# Altium footprint library IPC-SM-782 Section 14.1.2 PBGA 1.27mm.PcbLib: 49 footprints (part 6 of 11)
Each footprint in its own frame and in the unit in brackets; x right, y up, seen from the top. Pads: shape width x height; smd on the part's side, far side on the other; paste and mask are expansions set on the pad; w line width, h text height; cw(c..) or ccw(c..) is an arc to the next point about the centre after c.
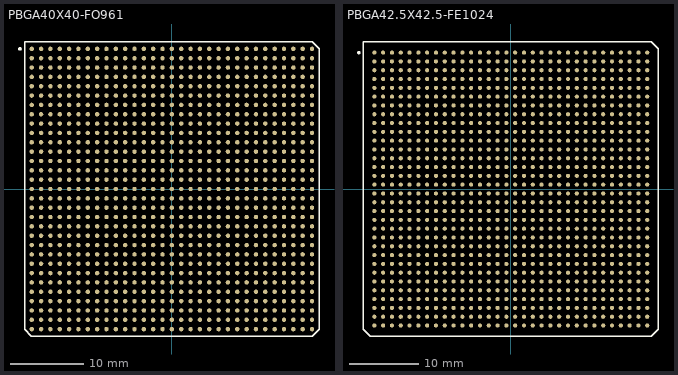
[diagram p5: the footprints below, top view; thin cyan lines are the x and y axes]

## PBGA40X40-FO961 [mm] "BGA; 961 Balls; Body 40 x 40 mm; Pitch 1.27 mm"
height 3.5
pads (961):
  round 0.6 smd: A1(-19.05,19.05) A2(-17.78,19.05) A3(-16.51,19.05) A4(-15.24,19.05) A5(-13.97,19.05) A6(-12.7,19.05) A7(-11.43,19.05) A8(-10.16,19.05) A9(-8.89,19.05) A10(-7.62,19.05) A11(-6.35,19.05) A12(-5.08,19.05) A13(-3.81,19.05) A14(-2.54,19.05) A15(-1.27,19.05) A16(0,19.05) A17(1.27,19.05) A18(2.54,19.05) A19(3.81,19.05) A20(5.08,19.05) A21(6.35,19.05) A22(7.62,19.05) A23(8.89,19.05) A24(10.16,19.05) A25(11.43,19.05) A26(12.7,19.05) A27(13.97,19.05) A28(15.24,19.05) A29(16.51,19.05) A30(17.78,19.05) A31(19.05,19.05) AA1(-19.05,-6.35) AA2(-17.78,-6.35) AA3(-16.51,-6.35) AA4(-15.24,-6.35) AA5(-13.97,-6.35) AA6(-12.7,-6.35) AA7(-11.43,-6.35) AA8(-10.16,-6.35) AA9(-8.89,-6.35) AA10(-7.62,-6.35) AA11(-6.35,-6.35) AA12(-5.08,-6.35) AA13(-3.81,-6.35) AA14(-2.54,-6.35) AA15(-1.27,-6.35) AA16(0,-6.35) AA17(1.27,-6.35) AA18(2.54,-6.35) AA19(3.81,-6.35) AA20(5.08,-6.35) AA21(6.35,-6.35) AA22(7.62,-6.35) AA23(8.89,-6.35) AA24(10.16,-6.35) AA25(11.43,-6.35) AA26(12.7,-6.35) AA27(13.97,-6.35) AA28(15.24,-6.35) AA29(16.51,-6.35) AA30(17.78,-6.35) AA31(19.05,-6.35) AB1(-19.05,-7.62) AB2(-17.78,-7.62) AB3(-16.51,-7.62) AB4(-15.24,-7.62) AB5(-13.97,-7.62) AB6(-12.7,-7.62) AB7(-11.43,-7.62) AB8(-10.16,-7.62) AB9(-8.89,-7.62) AB10(-7.62,-7.62) AB11(-6.35,-7.62) AB12(-5.08,-7.62) AB13(-3.81,-7.62) AB14(-2.54,-7.62) AB15(-1.27,-7.62) AB16(0,-7.62) AB17(1.27,-7.62) AB18(2.54,-7.62) AB19(3.81,-7.62) AB20(5.08,-7.62) AB21(6.35,-7.62) AB22(7.62,-7.62) AB23(8.89,-7.62) AB24(10.16,-7.62) AB25(11.43,-7.62) AB26(12.7,-7.62) AB27(13.97,-7.62) AB28(15.24,-7.62) AB29(16.51,-7.62) AB30(17.78,-7.62) AB31(19.05,-7.62) AC1(-19.05,-8.89) AC2(-17.78,-8.89) AC3(-16.51,-8.89) AC4(-15.24,-8.89) AC5(-13.97,-8.89) AC6(-12.7,-8.89) AC7(-11.43,-8.89) AC8(-10.16,-8.89) AC9(-8.89,-8.89) AC10(-7.62,-8.89) AC11(-6.35,-8.89) AC12(-5.08,-8.89) AC13(-3.81,-8.89) AC14(-2.54,-8.89) AC15(-1.27,-8.89) AC16(0,-8.89) AC17(1.27,-8.89) AC18(2.54,-8.89) AC19(3.81,-8.89) AC20(5.08,-8.89) AC21(6.35,-8.89) AC22(7.62,-8.89) AC23(8.89,-8.89) AC24(10.16,-8.89) AC25(11.43,-8.89) AC26(12.7,-8.89) AC27(13.97,-8.89) AC28(15.24,-8.89) AC29(16.51,-8.89) AC30(17.78,-8.89) AC31(19.05,-8.89) AD1(-19.05,-10.16) AD2(-17.78,-10.16) AD3(-16.51,-10.16) AD4(-15.24,-10.16) AD5(-13.97,-10.16) AD6(-12.7,-10.16) AD7(-11.43,-10.16) AD8(-10.16,-10.16) AD9(-8.89,-10.16) AD10(-7.62,-10.16) AD11(-6.35,-10.16) AD12(-5.08,-10.16) AD13(-3.81,-10.16) AD14(-2.54,-10.16) AD15(-1.27,-10.16) AD16(0,-10.16) AD17(1.27,-10.16) AD18(2.54,-10.16) AD19(3.81,-10.16) AD20(5.08,-10.16) AD21(6.35,-10.16) AD22(7.62,-10.16) AD23(8.89,-10.16) AD24(10.16,-10.16) AD25(11.43,-10.16) AD26(12.7,-10.16) AD27(13.97,-10.16) AD28(15.24,-10.16) AD29(16.51,-10.16) AD30(17.78,-10.16) AD31(19.05,-10.16) AE1(-19.05,-11.43) AE2(-17.78,-11.43) AE3(-16.51,-11.43) AE4(-15.24,-11.43) AE5(-13.97,-11.43) AE6(-12.7,-11.43) AE7(-11.43,-11.43) AE8(-10.16,-11.43) AE9(-8.89,-11.43) AE10(-7.62,-11.43) AE11(-6.35,-11.43) AE12(-5.08,-11.43) AE13(-3.81,-11.43) AE14(-2.54,-11.43) AE15(-1.27,-11.43) AE16(0,-11.43) AE17(1.27,-11.43) AE18(2.54,-11.43) AE19(3.81,-11.43) AE20(5.08,-11.43) AE21(6.35,-11.43) AE22(7.62,-11.43) AE23(8.89,-11.43) AE24(10.16,-11.43) AE25(11.43,-11.43) AE26(12.7,-11.43) AE27(13.97,-11.43) AE28(15.24,-11.43) AE29(16.51,-11.43) AE30(17.78,-11.43) AE31(19.05,-11.43) AF1(-19.05,-12.7) AF2(-17.78,-12.7) AF3(-16.51,-12.7) AF4(-15.24,-12.7) AF5(-13.97,-12.7) AF6(-12.7,-12.7) AF7(-11.43,-12.7) AF8(-10.16,-12.7) AF9(-8.89,-12.7) AF10(-7.62,-12.7) AF11(-6.35,-12.7) AF12(-5.08,-12.7) AF13(-3.81,-12.7) AF14(-2.54,-12.7) AF15(-1.27,-12.7) AF16(0,-12.7) AF17(1.27,-12.7) AF18(2.54,-12.7) AF19(3.81,-12.7) AF20(5.08,-12.7) AF21(6.35,-12.7) AF22(7.62,-12.7) AF23(8.89,-12.7) AF24(10.16,-12.7) AF25(11.43,-12.7) AF26(12.7,-12.7) AF27(13.97,-12.7) AF28(15.24,-12.7) AF29(16.51,-12.7) AF30(17.78,-12.7) AF31(19.05,-12.7) AG1(-19.05,-13.97) AG2(-17.78,-13.97) AG3(-16.51,-13.97) AG4(-15.24,-13.97) AG5(-13.97,-13.97) AG6(-12.7,-13.97) AG7(-11.43,-13.97) AG8(-10.16,-13.97) AG9(-8.89,-13.97) AG10(-7.62,-13.97) AG11(-6.35,-13.97) AG12(-5.08,-13.97) AG13(-3.81,-13.97) AG14(-2.54,-13.97) AG15(-1.27,-13.97) AG16(0,-13.97) AG17(1.27,-13.97) AG18(2.54,-13.97) AG19(3.81,-13.97) AG20(5.08,-13.97) AG21(6.35,-13.97) AG22(7.62,-13.97) AG23(8.89,-13.97) AG24(10.16,-13.97) AG25(11.43,-13.97) AG26(12.7,-13.97) AG27(13.97,-13.97) AG28(15.24,-13.97) AG29(16.51,-13.97) AG30(17.78,-13.97) AG31(19.05,-13.97) AH1(-19.05,-15.24) AH2(-17.78,-15.24) AH3(-16.51,-15.24) AH4(-15.24,-15.24) AH5(-13.97,-15.24) AH6(-12.7,-15.24) AH7(-11.43,-15.24) AH8(-10.16,-15.24) AH9(-8.89,-15.24) AH10(-7.62,-15.24) AH11(-6.35,-15.24) AH12(-5.08,-15.24) AH13(-3.81,-15.24) AH14(-2.54,-15.24) AH15(-1.27,-15.24) AH16(0,-15.24) AH17(1.27,-15.24) AH18(2.54,-15.24) AH19(3.81,-15.24) AH20(5.08,-15.24) AH21(6.35,-15.24) AH22(7.62,-15.24) AH23(8.89,-15.24) AH24(10.16,-15.24) AH25(11.43,-15.24) AH26(12.7,-15.24) AH27(13.97,-15.24) AH28(15.24,-15.24) AH29(16.51,-15.24) AH30(17.78,-15.24) AH31(19.05,-15.24) AJ1(-19.05,-16.51) AJ2(-17.78,-16.51) AJ3(-16.51,-16.51) AJ4(-15.24,-16.51) AJ5(-13.97,-16.51) AJ6(-12.7,-16.51) AJ7(-11.43,-16.51) AJ8(-10.16,-16.51) AJ9(-8.89,-16.51) AJ10(-7.62,-16.51) AJ11(-6.35,-16.51) AJ12(-5.08,-16.51) AJ13(-3.81,-16.51) AJ14(-2.54,-16.51) AJ15(-1.27,-16.51) AJ16(0,-16.51) AJ17(1.27,-16.51) AJ18(2.54,-16.51) AJ19(3.81,-16.51) AJ20(5.08,-16.51) AJ21(6.35,-16.51) AJ22(7.62,-16.51) AJ23(8.89,-16.51) AJ24(10.16,-16.51) AJ25(11.43,-16.51) AJ26(12.7,-16.51) AJ27(13.97,-16.51) AJ28(15.24,-16.51) AJ29(16.51,-16.51) AJ30(17.78,-16.51) AJ31(19.05,-16.51) AK1(-19.05,-17.78) AK2(-17.78,-17.78) AK3(-16.51,-17.78) AK4(-15.24,-17.78) AK5(-13.97,-17.78) AK6(-12.7,-17.78) AK7(-11.43,-17.78) AK8(-10.16,-17.78) AK9(-8.89,-17.78) AK10(-7.62,-17.78) AK11(-6.35,-17.78) AK12(-5.08,-17.78) AK13(-3.81,-17.78) AK14(-2.54,-17.78) AK15(-1.27,-17.78) AK16(0,-17.78) AK17(1.27,-17.78) AK18(2.54,-17.78) AK19(3.81,-17.78) AK20(5.08,-17.78) AK21(6.35,-17.78) AK22(7.62,-17.78) AK23(8.89,-17.78) AK24(10.16,-17.78) AK25(11.43,-17.78) AK26(12.7,-17.78) AK27(13.97,-17.78) AK28(15.24,-17.78) AK29(16.51,-17.78) AK30(17.78,-17.78) AK31(19.05,-17.78) AL1(-19.05,-19.05) AL2(-17.78,-19.05) AL3(-16.51,-19.05) AL4(-15.24,-19.05) AL5(-13.97,-19.05) AL6(-12.7,-19.05) AL7(-11.43,-19.05) AL8(-10.16,-19.05) AL9(-8.89,-19.05) AL10(-7.62,-19.05) AL11(-6.35,-19.05) AL12(-5.08,-19.05) AL13(-3.81,-19.05) AL14(-2.54,-19.05) AL15(-1.27,-19.05) AL16(0,-19.05) AL17(1.27,-19.05) AL18(2.54,-19.05) AL19(3.81,-19.05) AL20(5.08,-19.05) AL21(6.35,-19.05) AL22(7.62,-19.05) AL23(8.89,-19.05) AL24(10.16,-19.05) AL25(11.43,-19.05) AL26(12.7,-19.05) AL27(13.97,-19.05) AL28(15.24,-19.05) AL29(16.51,-19.05) AL30(17.78,-19.05) AL31(19.05,-19.05) B1(-19.05,17.78) B2(-17.78,17.78) B3(-16.51,17.78) B4(-15.24,17.78) B5(-13.97,17.78) B6(-12.7,17.78) B7(-11.43,17.78) B8(-10.16,17.78) B9(-8.89,17.78) B10(-7.62,17.78) B11(-6.35,17.78) B12(-5.08,17.78) B13(-3.81,17.78) B14(-2.54,17.78) B15(-1.27,17.78) B16(0,17.78) B17(1.27,17.78) B18(2.54,17.78) B19(3.81,17.78) B20(5.08,17.78) B21(6.35,17.78) B22(7.62,17.78) B23(8.89,17.78) B24(10.16,17.78) B25(11.43,17.78) B26(12.7,17.78) B27(13.97,17.78) B28(15.24,17.78) B29(16.51,17.78) B30(17.78,17.78) B31(19.05,17.78) C1(-19.05,16.51) C2(-17.78,16.51) C3(-16.51,16.51) C4(-15.24,16.51) C5(-13.97,16.51) C6(-12.7,16.51) C7(-11.43,16.51) C8(-10.16,16.51) C9(-8.89,16.51) C10(-7.62,16.51) C11(-6.35,16.51) C12(-5.08,16.51) C13(-3.81,16.51) C14(-2.54,16.51) C15(-1.27,16.51) C16(0,16.51) C17(1.27,16.51) C18(2.54,16.51) C19(3.81,16.51) C20(5.08,16.51) C21(6.35,16.51) C22(7.62,16.51) C23(8.89,16.51) C24(10.16,16.51) C25(11.43,16.51) C26(12.7,16.51) C27(13.97,16.51) C28(15.24,16.51) C29(16.51,16.51) C30(17.78,16.51) C31(19.05,16.51) D1(-19.05,15.24) D2(-17.78,15.24) D3(-16.51,15.24) D4(-15.24,15.24) D5(-13.97,15.24) D6(-12.7,15.24) D7(-11.43,15.24) D8(-10.16,15.24) D9(-8.89,15.24) D10(-7.62,15.24) D11(-6.35,15.24) D12(-5.08,15.24) D13(-3.81,15.24) D14(-2.54,15.24) D15(-1.27,15.24) D16(0,15.24) D17(1.27,15.24) D18(2.54,15.24) D19(3.81,15.24) D20(5.08,15.24) D21(6.35,15.24) D22(7.62,15.24) D23(8.89,15.24) D24(10.16,15.24) D25(11.43,15.24) D26(12.7,15.24) D27(13.97,15.24) D28(15.24,15.24) D29(16.51,15.24) D30(17.78,15.24) D31(19.05,15.24) E1(-19.05,13.97) E2(-17.78,13.97) E3(-16.51,13.97) E4(-15.24,13.97) E5(-13.97,13.97) E6(-12.7,13.97) E7(-11.43,13.97) E8(-10.16,13.97) E9(-8.89,13.97) E10(-7.62,13.97) E11(-6.35,13.97) E12(-5.08,13.97) E13(-3.81,13.97) E14(-2.54,13.97) E15(-1.27,13.97) E16(0,13.97) E17(1.27,13.97) E18(2.54,13.97) E19(3.81,13.97) E20(5.08,13.97) E21(6.35,13.97) E22(7.62,13.97) E23(8.89,13.97) E24(10.16,13.97) E25(11.43,13.97) E26(12.7,13.97) E27(13.97,13.97) E28(15.24,13.97) E29(16.51,13.97) E30(17.78,13.97) E31(19.05,13.97) F1(-19.05,12.7) F2(-17.78,12.7) F3(-16.51,12.7) F4(-15.24,12.7) F5(-13.97,12.7) F6(-12.7,12.7) F7(-11.43,12.7) F8(-10.16,12.7) F9(-8.89,12.7) F10(-7.62,12.7) F11(-6.35,12.7) F12(-5.08,12.7) F13(-3.81,12.7) F14(-2.54,12.7) F15(-1.27,12.7) F16(0,12.7) F17(1.27,12.7) F18(2.54,12.7) F19(3.81,12.7) F20(5.08,12.7) F21(6.35,12.7) F22(7.62,12.7) F23(8.89,12.7) F24(10.16,12.7) F25(11.43,12.7) F26(12.7,12.7) F27(13.97,12.7) F28(15.24,12.7) F29(16.51,12.7) F30(17.78,12.7) F31(19.05,12.7) G1(-19.05,11.43) G2(-17.78,11.43) G3(-16.51,11.43) G4(-15.24,11.43) G5(-13.97,11.43) G6(-12.7,11.43) G7(-11.43,11.43) G8(-10.16,11.43) G9(-8.89,11.43) G10(-7.62,11.43) G11(-6.35,11.43) G12(-5.08,11.43) G13(-3.81,11.43) G14(-2.54,11.43) G15(-1.27,11.43) G16(0,11.43) G17(1.27,11.43) G18(2.54,11.43) G19(3.81,11.43) G20(5.08,11.43) G21(6.35,11.43) G22(7.62,11.43) G23(8.89,11.43) G24(10.16,11.43) G25(11.43,11.43) G26(12.7,11.43) G27(13.97,11.43) G28(15.24,11.43) G29(16.51,11.43) G30(17.78,11.43) G31(19.05,11.43) H1(-19.05,10.16) H2(-17.78,10.16) H3(-16.51,10.16) H4(-15.24,10.16) H5(-13.97,10.16) H6(-12.7,10.16) H7(-11.43,10.16) H8(-10.16,10.16) H9(-8.89,10.16) H10(-7.62,10.16) H11(-6.35,10.16) H12(-5.08,10.16) H13(-3.81,10.16) H14(-2.54,10.16) H15(-1.27,10.16) H16(0,10.16) H17(1.27,10.16) H18(2.54,10.16) H19(3.81,10.16) H20(5.08,10.16) H21(6.35,10.16) H22(7.62,10.16) H23(8.89,10.16) H24(10.16,10.16) H25(11.43,10.16) H26(12.7,10.16) H27(13.97,10.16) H28(15.24,10.16) H29(16.51,10.16) H30(17.78,10.16) H31(19.05,10.16) J1(-19.05,8.89) J2(-17.78,8.89) J3(-16.51,8.89) J4(-15.24,8.89) J5(-13.97,8.89) J6(-12.7,8.89) J7(-11.43,8.89) J8(-10.16,8.89) J9(-8.89,8.89) J10(-7.62,8.89) J11(-6.35,8.89) J12(-5.08,8.89) J13(-3.81,8.89) J14(-2.54,8.89) J15(-1.27,8.89) J16(0,8.89) J17(1.27,8.89) J18(2.54,8.89) J19(3.81,8.89) J20(5.08,8.89) J21(6.35,8.89) J22(7.62,8.89) J23(8.89,8.89) J24(10.16,8.89) J25(11.43,8.89) J26(12.7,8.89) J27(13.97,8.89) J28(15.24,8.89) J29(16.51,8.89) J30(17.78,8.89) J31(19.05,8.89) K1(-19.05,7.62) K2(-17.78,7.62) K3(-16.51,7.62) K4(-15.24,7.62) K5(-13.97,7.62) K6(-12.7,7.62) K7(-11.43,7.62) K8(-10.16,7.62) K9(-8.89,7.62) K10(-7.62,7.62) K11(-6.35,7.62) K12(-5.08,7.62) K13(-3.81,7.62) K14(-2.54,7.62) K15(-1.27,7.62) K16(0,7.62) K17(1.27,7.62) K18(2.54,7.62) K19(3.81,7.62) K20(5.08,7.62) K21(6.35,7.62) K22(7.62,7.62) K23(8.89,7.62) K24(10.16,7.62) K25(11.43,7.62) K26(12.7,7.62) K27(13.97,7.62) K28(15.24,7.62) K29(16.51,7.62) K30(17.78,7.62) K31(19.05,7.62) L1(-19.05,6.35) L2(-17.78,6.35) L3(-16.51,6.35) L4(-15.24,6.35) L5(-13.97,6.35) L6(-12.7,6.35) L7(-11.43,6.35) L8(-10.16,6.35) L9(-8.89,6.35) L10(-7.62,6.35) L11(-6.35,6.35) L12(-5.08,6.35) L13(-3.81,6.35) L14(-2.54,6.35) L15(-1.27,6.35) L16(0,6.35) L17(1.27,6.35) L18(2.54,6.35) L19(3.81,6.35) L20(5.08,6.35) L21(6.35,6.35) L22(7.62,6.35) L23(8.89,6.35) L24(10.16,6.35) L25(11.43,6.35) L26(12.7,6.35) L27(13.97,6.35) L28(15.24,6.35) L29(16.51,6.35) L30(17.78,6.35) L31(19.05,6.35) M1(-19.05,5.08) M2(-17.78,5.08) M3(-16.51,5.08) M4(-15.24,5.08) M5(-13.97,5.08) M6(-12.7,5.08) M7(-11.43,5.08) M8(-10.16,5.08) M9(-8.89,5.08) M10(-7.62,5.08) M11(-6.35,5.08) M12(-5.08,5.08) M13(-3.81,5.08) M14(-2.54,5.08) M15(-1.27,5.08) M16(0,5.08) M17(1.27,5.08) M18(2.54,5.08) M19(3.81,5.08) M20(5.08,5.08) M21(6.35,5.08) M22(7.62,5.08) M23(8.89,5.08) M24(10.16,5.08) M25(11.43,5.08) M26(12.7,5.08) M27(13.97,5.08) M28(15.24,5.08) M29(16.51,5.08) M30(17.78,5.08) M31(19.05,5.08) N1(-19.05,3.81) N2(-17.78,3.81) N3(-16.51,3.81) N4(-15.24,3.81) N5(-13.97,3.81) N6(-12.7,3.81) N7(-11.43,3.81) N8(-10.16,3.81) N9(-8.89,3.81) N10(-7.62,3.81) N11(-6.35,3.81) N12(-5.08,3.81) N13(-3.81,3.81) N14(-2.54,3.81) N15(-1.27,3.81) N16(0,3.81) N17(1.27,3.81) N18(2.54,3.81) N19(3.81,3.81) N20(5.08,3.81) N21(6.35,3.81) N22(7.62,3.81) N23(8.89,3.81) N24(10.16,3.81) N25(11.43,3.81) N26(12.7,3.81) N27(13.97,3.81) N28(15.24,3.81) N29(16.51,3.81) N30(17.78,3.81) N31(19.05,3.81) P1(-19.05,2.54) P2(-17.78,2.54) P3(-16.51,2.54) P4(-15.24,2.54) P5(-13.97,2.54) P6(-12.7,2.54) P7(-11.43,2.54) P8(-10.16,2.54) P9(-8.89,2.54) P10(-7.62,2.54) P11(-6.35,2.54) P12(-5.08,2.54) P13(-3.81,2.54) P14(-2.54,2.54) P15(-1.27,2.54) P16(0,2.54) P17(1.27,2.54) P18(2.54,2.54) P19(3.81,2.54) P20(5.08,2.54) P21(6.35,2.54) P22(7.62,2.54) P23(8.89,2.54) P24(10.16,2.54) P25(11.43,2.54) P26(12.7,2.54) P27(13.97,2.54) P28(15.24,2.54) P29(16.51,2.54) P30(17.78,2.54) P31(19.05,2.54) R1(-19.05,1.27) R2(-17.78,1.27) R3(-16.51,1.27) R4(-15.24,1.27) R5(-13.97,1.27) R6(-12.7,1.27) R7(-11.43,1.27) R8(-10.16,1.27) R9(-8.89,1.27) R10(-7.62,1.27) R11(-6.35,1.27) R12(-5.08,1.27) R13(-3.81,1.27) R14(-2.54,1.27) R15(-1.27,1.27) R16(0,1.27) R17(1.27,1.27) R18(2.54,1.27) R19(3.81,1.27) R20(5.08,1.27) R21(6.35,1.27) R22(7.62,1.27) R23(8.89,1.27) R24(10.16,1.27) R25(11.43,1.27) R26(12.7,1.27) R27(13.97,1.27) R28(15.24,1.27) R29(16.51,1.27) R30(17.78,1.27) R31(19.05,1.27) T1(-19.05,0) T2(-17.78,0) T3(-16.51,0) T4(-15.24,0) T5(-13.97,0) T6(-12.7,0) T7(-11.43,0) T8(-10.16,0) T9(-8.89,0) T10(-7.62,0) T11(-6.35,0) T12(-5.08,0) T13(-3.81,0) T14(-2.54,0) T15(-1.27,0) T16(0,0) T17(1.27,0) T18(2.54,0) T19(3.81,0) T20(5.08,0) T21(6.35,0) T22(7.62,0) T23(8.89,0) T24(10.16,0) T25(11.43,0) T26(12.7,0) T27(13.97,0) T28(15.24,0) T29(16.51,0) T30(17.78,0) T31(19.05,0) U1(-19.05,-1.27) U2(-17.78,-1.27) U3(-16.51,-1.27) U4(-15.24,-1.27) U5(-13.97,-1.27) U6(-12.7,-1.27) U7(-11.43,-1.27) U8(-10.16,-1.27) U9(-8.89,-1.27) U10(-7.62,-1.27) U11(-6.35,-1.27) U12(-5.08,-1.27) U13(-3.81,-1.27) U14(-2.54,-1.27) U15(-1.27,-1.27) U16(0,-1.27) U17(1.27,-1.27) U18(2.54,-1.27) U19(3.81,-1.27) U20(5.08,-1.27) U21(6.35,-1.27) U22(7.62,-1.27) U23(8.89,-1.27) U24(10.16,-1.27) U25(11.43,-1.27) U26(12.7,-1.27) U27(13.97,-1.27) U28(15.24,-1.27) U29(16.51,-1.27) U30(17.78,-1.27) U31(19.05,-1.27) V1(-19.05,-2.54) V2(-17.78,-2.54) V3(-16.51,-2.54) V4(-15.24,-2.54) V5(-13.97,-2.54) V6(-12.7,-2.54) V7(-11.43,-2.54) V8(-10.16,-2.54) V9(-8.89,-2.54) V10(-7.62,-2.54) V11(-6.35,-2.54) V12(-5.08,-2.54) V13(-3.81,-2.54) V14(-2.54,-2.54) V15(-1.27,-2.54) V16(0,-2.54) V17(1.27,-2.54) V18(2.54,-2.54) V19(3.81,-2.54) V20(5.08,-2.54) V21(6.35,-2.54) V22(7.62,-2.54) V23(8.89,-2.54) V24(10.16,-2.54) V25(11.43,-2.54) V26(12.7,-2.54) V27(13.97,-2.54) V28(15.24,-2.54) V29(16.51,-2.54) V30(17.78,-2.54) V31(19.05,-2.54) W1(-19.05,-3.81) W2(-17.78,-3.81) W3(-16.51,-3.81) W4(-15.24,-3.81) W5(-13.97,-3.81) W6(-12.7,-3.81) W7(-11.43,-3.81) W8(-10.16,-3.81) W9(-8.89,-3.81) W10(-7.62,-3.81) W11(-6.35,-3.81) W12(-5.08,-3.81) W13(-3.81,-3.81) W14(-2.54,-3.81) W15(-1.27,-3.81) W16(0,-3.81) W17(1.27,-3.81) W18(2.54,-3.81) W19(3.81,-3.81) W20(5.08,-3.81) W21(6.35,-3.81) W22(7.62,-3.81) W23(8.89,-3.81) W24(10.16,-3.81) W25(11.43,-3.81) W26(12.7,-3.81) W27(13.97,-3.81) W28(15.24,-3.81) W29(16.51,-3.81) W30(17.78,-3.81) W31(19.05,-3.81) Y1(-19.05,-5.08) Y2(-17.78,-5.08) Y3(-16.51,-5.08) Y4(-15.24,-5.08) Y5(-13.97,-5.08) Y6(-12.7,-5.08) Y7(-11.43,-5.08) Y8(-10.16,-5.08) Y9(-8.89,-5.08) Y10(-7.62,-5.08) Y11(-6.35,-5.08) Y12(-5.08,-5.08) Y13(-3.81,-5.08) Y14(-2.54,-5.08) Y15(-1.27,-5.08) Y16(0,-5.08) Y17(1.27,-5.08) Y18(2.54,-5.08) Y19(3.81,-5.08) Y20(5.08,-5.08) Y21(6.35,-5.08) Y22(7.62,-5.08) Y23(8.89,-5.08) Y24(10.16,-5.08) Y25(11.43,-5.08) Y26(12.7,-5.08) Y27(13.97,-5.08) Y28(15.24,-5.08) Y29(16.51,-5.08) Y30(17.78,-5.08) Y31(19.05,-5.08)
Top Overlay:
  circle w0.25: c-20.655,19.05 r0.125
  lines w0.2: -20,-19.09 -20,20 19.09,20 20,19.09 20,-19.09 19.09,-20 -19.09,-20 -20,-19.09

## PBGA42.5X42.5-FE1024 [mm] "BGA; 1024 Balls; Body 42.5 x 42.5 mm; Pitch 1.27 mm"
height 3.5
pads (1024):
  round 0.6 smd: A1(-19.685,19.685) A2(-18.415,19.685) A3(-17.145,19.685) A4(-15.875,19.685) A5(-14.605,19.685) A6(-13.335,19.685) A7(-12.065,19.685) A8(-10.795,19.685) A9(-9.525,19.685) A10(-8.255,19.685) A11(-6.985,19.685) A12(-5.715,19.685) A13(-4.445,19.685) A14(-3.175,19.685) A15(-1.905,19.685) A16(-0.635,19.685) A17(0.635,19.685) A18(1.905,19.685) A19(3.175,19.685) A20(4.445,19.685) A21(5.715,19.685) A22(6.985,19.685) A23(8.255,19.685) A24(9.525,19.685) A25(10.795,19.685) A26(12.065,19.685) A27(13.335,19.685) A28(14.605,19.685) A29(15.875,19.685) A30(17.145,19.685) A31(18.415,19.685) A32(19.685,19.685) AA1(-19.685,-5.715) AA2(-18.415,-5.715) AA3(-17.145,-5.715) AA4(-15.875,-5.715) AA5(-14.605,-5.715) AA6(-13.335,-5.715) AA7(-12.065,-5.715) AA8(-10.795,-5.715) AA9(-9.525,-5.715) AA10(-8.255,-5.715) AA11(-6.985,-5.715) AA12(-5.715,-5.715) AA13(-4.445,-5.715) AA14(-3.175,-5.715) AA15(-1.905,-5.715) AA16(-0.635,-5.715) AA17(0.635,-5.715) AA18(1.905,-5.715) AA19(3.175,-5.715) AA20(4.445,-5.715) AA21(5.715,-5.715) AA22(6.985,-5.715) AA23(8.255,-5.715) AA24(9.525,-5.715) AA25(10.795,-5.715) AA26(12.065,-5.715) AA27(13.335,-5.715) AA28(14.605,-5.715) AA29(15.875,-5.715) AA30(17.145,-5.715) AA31(18.415,-5.715) AA32(19.685,-5.715) AB1(-19.685,-6.985) AB2(-18.415,-6.985) AB3(-17.145,-6.985) AB4(-15.875,-6.985) AB5(-14.605,-6.985) AB6(-13.335,-6.985) AB7(-12.065,-6.985) AB8(-10.795,-6.985) AB9(-9.525,-6.985) AB10(-8.255,-6.985) AB11(-6.985,-6.985) AB12(-5.715,-6.985) AB13(-4.445,-6.985) AB14(-3.175,-6.985) AB15(-1.905,-6.985) AB16(-0.635,-6.985) AB17(0.635,-6.985) AB18(1.905,-6.985) AB19(3.175,-6.985) AB20(4.445,-6.985) AB21(5.715,-6.985) AB22(6.985,-6.985) AB23(8.255,-6.985) AB24(9.525,-6.985) AB25(10.795,-6.985) AB26(12.065,-6.985) AB27(13.335,-6.985) AB28(14.605,-6.985) AB29(15.875,-6.985) AB30(17.145,-6.985) AB31(18.415,-6.985) AB32(19.685,-6.985) AC1(-19.685,-8.255) AC2(-18.415,-8.255) AC3(-17.145,-8.255) AC4(-15.875,-8.255) AC5(-14.605,-8.255) AC6(-13.335,-8.255) AC7(-12.065,-8.255) AC8(-10.795,-8.255) AC9(-9.525,-8.255) AC10(-8.255,-8.255) AC11(-6.985,-8.255) AC12(-5.715,-8.255) AC13(-4.445,-8.255) AC14(-3.175,-8.255) AC15(-1.905,-8.255) AC16(-0.635,-8.255) AC17(0.635,-8.255) AC18(1.905,-8.255) AC19(3.175,-8.255) AC20(4.445,-8.255) AC21(5.715,-8.255) AC22(6.985,-8.255) AC23(8.255,-8.255) AC24(9.525,-8.255) AC25(10.795,-8.255) AC26(12.065,-8.255) AC27(13.335,-8.255) AC28(14.605,-8.255) AC29(15.875,-8.255) AC30(17.145,-8.255) AC31(18.415,-8.255) AC32(19.685,-8.255) AD1(-19.685,-9.525) AD2(-18.415,-9.525) AD3(-17.145,-9.525) AD4(-15.875,-9.525) AD5(-14.605,-9.525) AD6(-13.335,-9.525) AD7(-12.065,-9.525) AD8(-10.795,-9.525) AD9(-9.525,-9.525) AD10(-8.255,-9.525) AD11(-6.985,-9.525) AD12(-5.715,-9.525) AD13(-4.445,-9.525) AD14(-3.175,-9.525) AD15(-1.905,-9.525) AD16(-0.635,-9.525) AD17(0.635,-9.525) AD18(1.905,-9.525) AD19(3.175,-9.525) AD20(4.445,-9.525) AD21(5.715,-9.525) AD22(6.985,-9.525) AD23(8.255,-9.525) AD24(9.525,-9.525) AD25(10.795,-9.525) AD26(12.065,-9.525) AD27(13.335,-9.525) AD28(14.605,-9.525) AD29(15.875,-9.525) AD30(17.145,-9.525) AD31(18.415,-9.525) AD32(19.685,-9.525) AE1(-19.685,-10.795) AE2(-18.415,-10.795) AE3(-17.145,-10.795) AE4(-15.875,-10.795) AE5(-14.605,-10.795) AE6(-13.335,-10.795) AE7(-12.065,-10.795) AE8(-10.795,-10.795) AE9(-9.525,-10.795) AE10(-8.255,-10.795) AE11(-6.985,-10.795) AE12(-5.715,-10.795) AE13(-4.445,-10.795) AE14(-3.175,-10.795) AE15(-1.905,-10.795) AE16(-0.635,-10.795) AE17(0.635,-10.795) AE18(1.905,-10.795) AE19(3.175,-10.795) AE20(4.445,-10.795) AE21(5.715,-10.795) AE22(6.985,-10.795) AE23(8.255,-10.795) AE24(9.525,-10.795) AE25(10.795,-10.795) AE26(12.065,-10.795) AE27(13.335,-10.795) AE28(14.605,-10.795) AE29(15.875,-10.795) AE30(17.145,-10.795) AE31(18.415,-10.795) AE32(19.685,-10.795) AF1(-19.685,-12.065) AF2(-18.415,-12.065) AF3(-17.145,-12.065) AF4(-15.875,-12.065) AF5(-14.605,-12.065) AF6(-13.335,-12.065) AF7(-12.065,-12.065) AF8(-10.795,-12.065) AF9(-9.525,-12.065) AF10(-8.255,-12.065) AF11(-6.985,-12.065) AF12(-5.715,-12.065) AF13(-4.445,-12.065) AF14(-3.175,-12.065) AF15(-1.905,-12.065) AF16(-0.635,-12.065) AF17(0.635,-12.065) AF18(1.905,-12.065) AF19(3.175,-12.065) AF20(4.445,-12.065) AF21(5.715,-12.065) AF22(6.985,-12.065) AF23(8.255,-12.065) AF24(9.525,-12.065) AF25(10.795,-12.065) AF26(12.065,-12.065) AF27(13.335,-12.065) AF28(14.605,-12.065) AF29(15.875,-12.065) AF30(17.145,-12.065) AF31(18.415,-12.065) AF32(19.685,-12.065) AG1(-19.685,-13.335) AG2(-18.415,-13.335) AG3(-17.145,-13.335) AG4(-15.875,-13.335) AG5(-14.605,-13.335) AG6(-13.335,-13.335) AG7(-12.065,-13.335) AG8(-10.795,-13.335) AG9(-9.525,-13.335) AG10(-8.255,-13.335) AG11(-6.985,-13.335) AG12(-5.715,-13.335) AG13(-4.445,-13.335) AG14(-3.175,-13.335) AG15(-1.905,-13.335) AG16(-0.635,-13.335) AG17(0.635,-13.335) AG18(1.905,-13.335) AG19(3.175,-13.335) AG20(4.445,-13.335) AG21(5.715,-13.335) AG22(6.985,-13.335) AG23(8.255,-13.335) AG24(9.525,-13.335) AG25(10.795,-13.335) AG26(12.065,-13.335) AG27(13.335,-13.335) AG28(14.605,-13.335) AG29(15.875,-13.335) AG30(17.145,-13.335) AG31(18.415,-13.335) AG32(19.685,-13.335) AH1(-19.685,-14.605) AH2(-18.415,-14.605) AH3(-17.145,-14.605) AH4(-15.875,-14.605) AH5(-14.605,-14.605) AH6(-13.335,-14.605) AH7(-12.065,-14.605) AH8(-10.795,-14.605) AH9(-9.525,-14.605) AH10(-8.255,-14.605) AH11(-6.985,-14.605) AH12(-5.715,-14.605) AH13(-4.445,-14.605) AH14(-3.175,-14.605) AH15(-1.905,-14.605) AH16(-0.635,-14.605) AH17(0.635,-14.605) AH18(1.905,-14.605) AH19(3.175,-14.605) AH20(4.445,-14.605) AH21(5.715,-14.605) AH22(6.985,-14.605) AH23(8.255,-14.605) AH24(9.525,-14.605) AH25(10.795,-14.605) AH26(12.065,-14.605) AH27(13.335,-14.605) AH28(14.605,-14.605) AH29(15.875,-14.605) AH30(17.145,-14.605) AH31(18.415,-14.605) AH32(19.685,-14.605) AJ1(-19.685,-15.875) AJ2(-18.415,-15.875) AJ3(-17.145,-15.875) AJ4(-15.875,-15.875) AJ5(-14.605,-15.875) AJ6(-13.335,-15.875) AJ7(-12.065,-15.875) AJ8(-10.795,-15.875) AJ9(-9.525,-15.875) AJ10(-8.255,-15.875) AJ11(-6.985,-15.875) AJ12(-5.715,-15.875) AJ13(-4.445,-15.875) AJ14(-3.175,-15.875) AJ15(-1.905,-15.875) AJ16(-0.635,-15.875) AJ17(0.635,-15.875) AJ18(1.905,-15.875) AJ19(3.175,-15.875) AJ20(4.445,-15.875) AJ21(5.715,-15.875) AJ22(6.985,-15.875) AJ23(8.255,-15.875) AJ24(9.525,-15.875) AJ25(10.795,-15.875) AJ26(12.065,-15.875) AJ27(13.335,-15.875) AJ28(14.605,-15.875) AJ29(15.875,-15.875) AJ30(17.145,-15.875) AJ31(18.415,-15.875) AJ32(19.685,-15.875) AK1(-19.685,-17.145) AK2(-18.415,-17.145) AK3(-17.145,-17.145) AK4(-15.875,-17.145) AK5(-14.605,-17.145) AK6(-13.335,-17.145) AK7(-12.065,-17.145) AK8(-10.795,-17.145) AK9(-9.525,-17.145) AK10(-8.255,-17.145) AK11(-6.985,-17.145) AK12(-5.715,-17.145) AK13(-4.445,-17.145) AK14(-3.175,-17.145) AK15(-1.905,-17.145) AK16(-0.635,-17.145) AK17(0.635,-17.145) AK18(1.905,-17.145) AK19(3.175,-17.145) AK20(4.445,-17.145) AK21(5.715,-17.145) AK22(6.985,-17.145) AK23(8.255,-17.145) AK24(9.525,-17.145) AK25(10.795,-17.145) AK26(12.065,-17.145) AK27(13.335,-17.145) AK28(14.605,-17.145) AK29(15.875,-17.145) AK30(17.145,-17.145) AK31(18.415,-17.145) AK32(19.685,-17.145) AL1(-19.685,-18.415) AL2(-18.415,-18.415) AL3(-17.145,-18.415) AL4(-15.875,-18.415) AL5(-14.605,-18.415) AL6(-13.335,-18.415) AL7(-12.065,-18.415) AL8(-10.795,-18.415) AL9(-9.525,-18.415) AL10(-8.255,-18.415) AL11(-6.985,-18.415) AL12(-5.715,-18.415) AL13(-4.445,-18.415) AL14(-3.175,-18.415) AL15(-1.905,-18.415) AL16(-0.635,-18.415) AL17(0.635,-18.415) AL18(1.905,-18.415) AL19(3.175,-18.415) AL20(4.445,-18.415) AL21(5.715,-18.415) AL22(6.985,-18.415) AL23(8.255,-18.415) AL24(9.525,-18.415) AL25(10.795,-18.415) AL26(12.065,-18.415) AL27(13.335,-18.415) AL28(14.605,-18.415) AL29(15.875,-18.415) AL30(17.145,-18.415) AL31(18.415,-18.415) AL32(19.685,-18.415) AM1(-19.685,-19.685) AM2(-18.415,-19.685) AM3(-17.145,-19.685) AM4(-15.875,-19.685) AM5(-14.605,-19.685) AM6(-13.335,-19.685) AM7(-12.065,-19.685) AM8(-10.795,-19.685) AM9(-9.525,-19.685) AM10(-8.255,-19.685) AM11(-6.985,-19.685) AM12(-5.715,-19.685) AM13(-4.445,-19.685) AM14(-3.175,-19.685) AM15(-1.905,-19.685) AM16(-0.635,-19.685) AM17(0.635,-19.685) AM18(1.905,-19.685) AM19(3.175,-19.685) AM20(4.445,-19.685) AM21(5.715,-19.685) AM22(6.985,-19.685) AM23(8.255,-19.685) AM24(9.525,-19.685) AM25(10.795,-19.685) AM26(12.065,-19.685) AM27(13.335,-19.685) AM28(14.605,-19.685) AM29(15.875,-19.685) AM30(17.145,-19.685) AM31(18.415,-19.685) AM32(19.685,-19.685) B1(-19.685,18.415) B2(-18.415,18.415) B3(-17.145,18.415) B4(-15.875,18.415) B5(-14.605,18.415) B6(-13.335,18.415) B7(-12.065,18.415) B8(-10.795,18.415) B9(-9.525,18.415) B10(-8.255,18.415) B11(-6.985,18.415) B12(-5.715,18.415) B13(-4.445,18.415) B14(-3.175,18.415) B15(-1.905,18.415) B16(-0.635,18.415) B17(0.635,18.415) B18(1.905,18.415) B19(3.175,18.415) B20(4.445,18.415) B21(5.715,18.415) B22(6.985,18.415) B23(8.255,18.415) B24(9.525,18.415) B25(10.795,18.415) B26(12.065,18.415) B27(13.335,18.415) B28(14.605,18.415) B29(15.875,18.415) B30(17.145,18.415) B31(18.415,18.415) B32(19.685,18.415) C1(-19.685,17.145) C2(-18.415,17.145) C3(-17.145,17.145) C4(-15.875,17.145) C5(-14.605,17.145) C6(-13.335,17.145) C7(-12.065,17.145) C8(-10.795,17.145) C9(-9.525,17.145) C10(-8.255,17.145) C11(-6.985,17.145) C12(-5.715,17.145) C13(-4.445,17.145) C14(-3.175,17.145) C15(-1.905,17.145) C16(-0.635,17.145) C17(0.635,17.145) C18(1.905,17.145) C19(3.175,17.145) C20(4.445,17.145) C21(5.715,17.145) C22(6.985,17.145) C23(8.255,17.145) C24(9.525,17.145) C25(10.795,17.145) C26(12.065,17.145) C27(13.335,17.145) C28(14.605,17.145) C29(15.875,17.145) C30(17.145,17.145) C31(18.415,17.145) C32(19.685,17.145) D1(-19.685,15.875) D2(-18.415,15.875) D3(-17.145,15.875) D4(-15.875,15.875) D5(-14.605,15.875) D6(-13.335,15.875) D7(-12.065,15.875) D8(-10.795,15.875) D9(-9.525,15.875) D10(-8.255,15.875) D11(-6.985,15.875) D12(-5.715,15.875) D13(-4.445,15.875) D14(-3.175,15.875) D15(-1.905,15.875) D16(-0.635,15.875) D17(0.635,15.875) D18(1.905,15.875) D19(3.175,15.875) D20(4.445,15.875) D21(5.715,15.875) D22(6.985,15.875) D23(8.255,15.875) D24(9.525,15.875) D25(10.795,15.875) D26(12.065,15.875) D27(13.335,15.875) D28(14.605,15.875) D29(15.875,15.875) D30(17.145,15.875) D31(18.415,15.875) D32(19.685,15.875) E1(-19.685,14.605) E2(-18.415,14.605) E3(-17.145,14.605) E4(-15.875,14.605) E5(-14.605,14.605) E6(-13.335,14.605) E7(-12.065,14.605) E8(-10.795,14.605) E9(-9.525,14.605) E10(-8.255,14.605) E11(-6.985,14.605) E12(-5.715,14.605) E13(-4.445,14.605) E14(-3.175,14.605) E15(-1.905,14.605) E16(-0.635,14.605) E17(0.635,14.605) E18(1.905,14.605) E19(3.175,14.605) E20(4.445,14.605) E21(5.715,14.605) E22(6.985,14.605) E23(8.255,14.605) E24(9.525,14.605) E25(10.795,14.605) E26(12.065,14.605) E27(13.335,14.605) E28(14.605,14.605) E29(15.875,14.605) E30(17.145,14.605) E31(18.415,14.605) E32(19.685,14.605) F1(-19.685,13.335) F2(-18.415,13.335) F3(-17.145,13.335) F4(-15.875,13.335) F5(-14.605,13.335) F6(-13.335,13.335) F7(-12.065,13.335) F8(-10.795,13.335) F9(-9.525,13.335) F10(-8.255,13.335) F11(-6.985,13.335) F12(-5.715,13.335) F13(-4.445,13.335) F14(-3.175,13.335) F15(-1.905,13.335) F16(-0.635,13.335) F17(0.635,13.335) F18(1.905,13.335) F19(3.175,13.335) F20(4.445,13.335) F21(5.715,13.335) F22(6.985,13.335) F23(8.255,13.335) F24(9.525,13.335) F25(10.795,13.335) F26(12.065,13.335) F27(13.335,13.335) F28(14.605,13.335) F29(15.875,13.335) F30(17.145,13.335) F31(18.415,13.335) F32(19.685,13.335) G1(-19.685,12.065) G2(-18.415,12.065) G3(-17.145,12.065) G4(-15.875,12.065) G5(-14.605,12.065) G6(-13.335,12.065) G7(-12.065,12.065) G8(-10.795,12.065) G9(-9.525,12.065) G10(-8.255,12.065) G11(-6.985,12.065) G12(-5.715,12.065) G13(-4.445,12.065) G14(-3.175,12.065) G15(-1.905,12.065) G16(-0.635,12.065) G17(0.635,12.065) G18(1.905,12.065) G19(3.175,12.065) G20(4.445,12.065) G21(5.715,12.065) G22(6.985,12.065) G23(8.255,12.065) G24(9.525,12.065) G25(10.795,12.065) G26(12.065,12.065) G27(13.335,12.065) G28(14.605,12.065) G29(15.875,12.065) G30(17.145,12.065) G31(18.415,12.065) G32(19.685,12.065) H1(-19.685,10.795) H2(-18.415,10.795) H3(-17.145,10.795) H4(-15.875,10.795) H5(-14.605,10.795) H6(-13.335,10.795) H7(-12.065,10.795) H8(-10.795,10.795) H9(-9.525,10.795) H10(-8.255,10.795) H11(-6.985,10.795) H12(-5.715,10.795) H13(-4.445,10.795) H14(-3.175,10.795) H15(-1.905,10.795) H16(-0.635,10.795) H17(0.635,10.795) H18(1.905,10.795) H19(3.175,10.795) H20(4.445,10.795) H21(5.715,10.795) H22(6.985,10.795) H23(8.255,10.795) H24(9.525,10.795) H25(10.795,10.795) H26(12.065,10.795) H27(13.335,10.795) H28(14.605,10.795) H29(15.875,10.795) H30(17.145,10.795) H31(18.415,10.795) H32(19.685,10.795) J1(-19.685,9.525) J2(-18.415,9.525) J3(-17.145,9.525) J4(-15.875,9.525) J5(-14.605,9.525) J6(-13.335,9.525) J7(-12.065,9.525) J8(-10.795,9.525) J9(-9.525,9.525) J10(-8.255,9.525) J11(-6.985,9.525) J12(-5.715,9.525) J13(-4.445,9.525) J14(-3.175,9.525) J15(-1.905,9.525) J16(-0.635,9.525) J17(0.635,9.525) J18(1.905,9.525) J19(3.175,9.525) J20(4.445,9.525) J21(5.715,9.525) J22(6.985,9.525) J23(8.255,9.525) J24(9.525,9.525) J25(10.795,9.525) J26(12.065,9.525) J27(13.335,9.525) J28(14.605,9.525) J29(15.875,9.525) J30(17.145,9.525) J31(18.415,9.525) J32(19.685,9.525) K1(-19.685,8.255) K2(-18.415,8.255) K3(-17.145,8.255) K4(-15.875,8.255) K5(-14.605,8.255) K6(-13.335,8.255) K7(-12.065,8.255) K8(-10.795,8.255) K9(-9.525,8.255) K10(-8.255,8.255) K11(-6.985,8.255) K12(-5.715,8.255) K13(-4.445,8.255) K14(-3.175,8.255) K15(-1.905,8.255) K16(-0.635,8.255) K17(0.635,8.255) K18(1.905,8.255) K19(3.175,8.255) K20(4.445,8.255) K21(5.715,8.255) K22(6.985,8.255) K23(8.255,8.255) K24(9.525,8.255) K25(10.795,8.255) K26(12.065,8.255) K27(13.335,8.255) K28(14.605,8.255) K29(15.875,8.255) K30(17.145,8.255) K31(18.415,8.255) K32(19.685,8.255) L1(-19.685,6.985) L2(-18.415,6.985) L3(-17.145,6.985) L4(-15.875,6.985) L5(-14.605,6.985) L6(-13.335,6.985) L7(-12.065,6.985) L8(-10.795,6.985) L9(-9.525,6.985) L10(-8.255,6.985) L11(-6.985,6.985) L12(-5.715,6.985) L13(-4.445,6.985) L14(-3.175,6.985) L15(-1.905,6.985) L16(-0.635,6.985) L17(0.635,6.985) L18(1.905,6.985) L19(3.175,6.985) L20(4.445,6.985) L21(5.715,6.985) L22(6.985,6.985) L23(8.255,6.985) L24(9.525,6.985) L25(10.795,6.985) L26(12.065,6.985) L27(13.335,6.985) L28(14.605,6.985) L29(15.875,6.985) L30(17.145,6.985) L31(18.415,6.985) L32(19.685,6.985) M1(-19.685,5.715) M2(-18.415,5.715) M3(-17.145,5.715) M4(-15.875,5.715) M5(-14.605,5.715) M6(-13.335,5.715) M7(-12.065,5.715) M8(-10.795,5.715) M9(-9.525,5.715) M10(-8.255,5.715) M11(-6.985,5.715) M12(-5.715,5.715) M13(-4.445,5.715) M14(-3.175,5.715) M15(-1.905,5.715) M16(-0.635,5.715) M17(0.635,5.715) M18(1.905,5.715) M19(3.175,5.715) M20(4.445,5.715) M21(5.715,5.715) M22(6.985,5.715) M23(8.255,5.715) M24(9.525,5.715) M25(10.795,5.715) M26(12.065,5.715) M27(13.335,5.715) M28(14.605,5.715) M29(15.875,5.715) M30(17.145,5.715) M31(18.415,5.715) M32(19.685,5.715) N1(-19.685,4.445) N2(-18.415,4.445) N3(-17.145,4.445) N4(-15.875,4.445) N5(-14.605,4.445) N6(-13.335,4.445) N7(-12.065,4.445) N8(-10.795,4.445) N9(-9.525,4.445) N10(-8.255,4.445) N11(-6.985,4.445) N12(-5.715,4.445) N13(-4.445,4.445) N14(-3.175,4.445) N15(-1.905,4.445) N16(-0.635,4.445) N17(0.635,4.445) N18(1.905,4.445) N19(3.175,4.445) N20(4.445,4.445) N21(5.715,4.445) N22(6.985,4.445) N23(8.255,4.445) N24(9.525,4.445) N25(10.795,4.445) N26(12.065,4.445) N27(13.335,4.445) N28(14.605,4.445) N29(15.875,4.445) N30(17.145,4.445) N31(18.415,4.445) N32(19.685,4.445) P1(-19.685,3.175) P2(-18.415,3.175) P3(-17.145,3.175) P4(-15.875,3.175) P5(-14.605,3.175) P6(-13.335,3.175) P7(-12.065,3.175) P8(-10.795,3.175) P9(-9.525,3.175) P10(-8.255,3.175) P11(-6.985,3.175) P12(-5.715,3.175) P13(-4.445,3.175) P14(-3.175,3.175) P15(-1.905,3.175) P16(-0.635,3.175) P17(0.635,3.175) P18(1.905,3.175) P19(3.175,3.175) P20(4.445,3.175) P21(5.715,3.175) P22(6.985,3.175) P23(8.255,3.175) P24(9.525,3.175) P25(10.795,3.175) P26(12.065,3.175) P27(13.335,3.175) P28(14.605,3.175) P29(15.875,3.175) P30(17.145,3.175) P31(18.415,3.175) P32(19.685,3.175) R1(-19.685,1.905) R2(-18.415,1.905) R3(-17.145,1.905) R4(-15.875,1.905) R5(-14.605,1.905) R6(-13.335,1.905) R7(-12.065,1.905) R8(-10.795,1.905) R9(-9.525,1.905) R10(-8.255,1.905) R11(-6.985,1.905) R12(-5.715,1.905) R13(-4.445,1.905) R14(-3.175,1.905) R15(-1.905,1.905) R16(-0.635,1.905) R17(0.635,1.905) R18(1.905,1.905) R19(3.175,1.905) R20(4.445,1.905) R21(5.715,1.905) R22(6.985,1.905) R23(8.255,1.905) R24(9.525,1.905) R25(10.795,1.905) R26(12.065,1.905) R27(13.335,1.905) R28(14.605,1.905) R29(15.875,1.905) R30(17.145,1.905) R31(18.415,1.905) R32(19.685,1.905) T1(-19.685,0.635) T2(-18.415,0.635) T3(-17.145,0.635) T4(-15.875,0.635) T5(-14.605,0.635) T6(-13.335,0.635) T7(-12.065,0.635) T8(-10.795,0.635) T9(-9.525,0.635) T10(-8.255,0.635) T11(-6.985,0.635) T12(-5.715,0.635) T13(-4.445,0.635) T14(-3.175,0.635) T15(-1.905,0.635) T16(-0.635,0.635) T17(0.635,0.635) T18(1.905,0.635) T19(3.175,0.635) T20(4.445,0.635) T21(5.715,0.635) T22(6.985,0.635) T23(8.255,0.635) T24(9.525,0.635) T25(10.795,0.635) T26(12.065,0.635) T27(13.335,0.635) T28(14.605,0.635) T29(15.875,0.635) T30(17.145,0.635) T31(18.415,0.635) T32(19.685,0.635) U1(-19.685,-0.635) U2(-18.415,-0.635) U3(-17.145,-0.635) U4(-15.875,-0.635) U5(-14.605,-0.635) U6(-13.335,-0.635) U7(-12.065,-0.635) U8(-10.795,-0.635) U9(-9.525,-0.635) U10(-8.255,-0.635) U11(-6.985,-0.635) U12(-5.715,-0.635) U13(-4.445,-0.635) U14(-3.175,-0.635) U15(-1.905,-0.635) U16(-0.635,-0.635) U17(0.635,-0.635) U18(1.905,-0.635) U19(3.175,-0.635) U20(4.445,-0.635) U21(5.715,-0.635) U22(6.985,-0.635) U23(8.255,-0.635) U24(9.525,-0.635) U25(10.795,-0.635) U26(12.065,-0.635) U27(13.335,-0.635) U28(14.605,-0.635) U29(15.875,-0.635) U30(17.145,-0.635) U31(18.415,-0.635) U32(19.685,-0.635) V1(-19.685,-1.905) V2(-18.415,-1.905) V3(-17.145,-1.905) V4(-15.875,-1.905) V5(-14.605,-1.905) V6(-13.335,-1.905) V7(-12.065,-1.905) V8(-10.795,-1.905) V9(-9.525,-1.905) V10(-8.255,-1.905) V11(-6.985,-1.905) V12(-5.715,-1.905) V13(-4.445,-1.905) V14(-3.175,-1.905) V15(-1.905,-1.905) V16(-0.635,-1.905) V17(0.635,-1.905) V18(1.905,-1.905) V19(3.175,-1.905) V20(4.445,-1.905) V21(5.715,-1.905) V22(6.985,-1.905) V23(8.255,-1.905) V24(9.525,-1.905) V25(10.795,-1.905) V26(12.065,-1.905) V27(13.335,-1.905) V28(14.605,-1.905) V29(15.875,-1.905) V30(17.145,-1.905) V31(18.415,-1.905) V32(19.685,-1.905) W1(-19.685,-3.175) W2(-18.415,-3.175) W3(-17.145,-3.175) W4(-15.875,-3.175) W5(-14.605,-3.175) W6(-13.335,-3.175) W7(-12.065,-3.175) W8(-10.795,-3.175) W9(-9.525,-3.175) W10(-8.255,-3.175) W11(-6.985,-3.175) W12(-5.715,-3.175) W13(-4.445,-3.175) W14(-3.175,-3.175) W15(-1.905,-3.175) W16(-0.635,-3.175) W17(0.635,-3.175) W18(1.905,-3.175) W19(3.175,-3.175) W20(4.445,-3.175) W21(5.715,-3.175) W22(6.985,-3.175) W23(8.255,-3.175) W24(9.525,-3.175) W25(10.795,-3.175) W26(12.065,-3.175) W27(13.335,-3.175) W28(14.605,-3.175) W29(15.875,-3.175) W30(17.145,-3.175) W31(18.415,-3.175) W32(19.685,-3.175) Y1(-19.685,-4.445) Y2(-18.415,-4.445) Y3(-17.145,-4.445) Y4(-15.875,-4.445) Y5(-14.605,-4.445) Y6(-13.335,-4.445) Y7(-12.065,-4.445) Y8(-10.795,-4.445) Y9(-9.525,-4.445) Y10(-8.255,-4.445) Y11(-6.985,-4.445) Y12(-5.715,-4.445) Y13(-4.445,-4.445) Y14(-3.175,-4.445) Y15(-1.905,-4.445) Y16(-0.635,-4.445) Y17(0.635,-4.445) Y18(1.905,-4.445) Y19(3.175,-4.445) Y20(4.445,-4.445) Y21(5.715,-4.445) Y22(6.985,-4.445) Y23(8.255,-4.445) Y24(9.525,-4.445) Y25(10.795,-4.445) Y26(12.065,-4.445) Y27(13.335,-4.445) Y28(14.605,-4.445) Y29(15.875,-4.445) Y30(17.145,-4.445) Y31(18.415,-4.445) Y32(19.685,-4.445)
Top Overlay:
  circle w0.25: c-21.915,19.685 r0.125
  lines w0.2: -21.26,-20.24 -21.26,21.26 20.24,21.26 21.24,20.26 21.24,-20.24 20.24,-21.24 -20.26,-21.24 -21.26,-20.24